# EAGLE library part CAP1133 (library appfruits)
IC TOUCH SENSOR/LED DRVR 10DFN
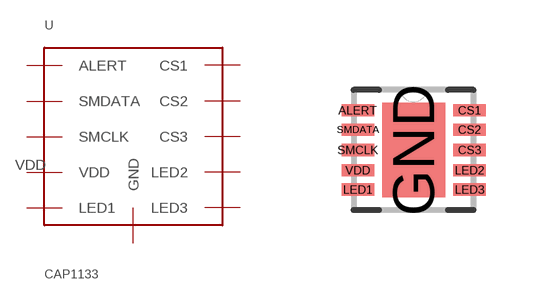
[diagram p0: symbol with the pads of DFN300X300X100-11N; footprint DFN300X300X100-11N]

Designator prefix U

## CAP1133CAP1133 (MF: Microchip; MPN: CAP1133-1-AIA-TR; SUPPLIER: Microchip Technology)  [DFN300X300X100-11N]
ALERT  ALERT
CS1  CS1
CS2  CS2
CS3  CS3
GND  GND
LED1  LED1
LED2  LED2
LED3  LED3
SMCLK  SMCLK
SMDATA  SMDATA
VDD  VDD

## Footprint DFN300X300X100-11N (pad centres in mm)
smd 0.813 x 0.305: ALERT -1.397,0.991; CS1 1.397,0.991; CS2 1.397,0.508; CS3 1.397,0; LED1 -1.397,-0.991; LED2 1.397,-0.508; LED3 1.397,-0.991; SMCLK -1.397,0; SMDATA -1.397,0.508; VDD -1.397,-0.508
smd 1.575 x 2.362: GND 0,0